# Altium schematic symbol library ICS_DIVERSOS.SchLib: 48 symbols (part 2 of 3)
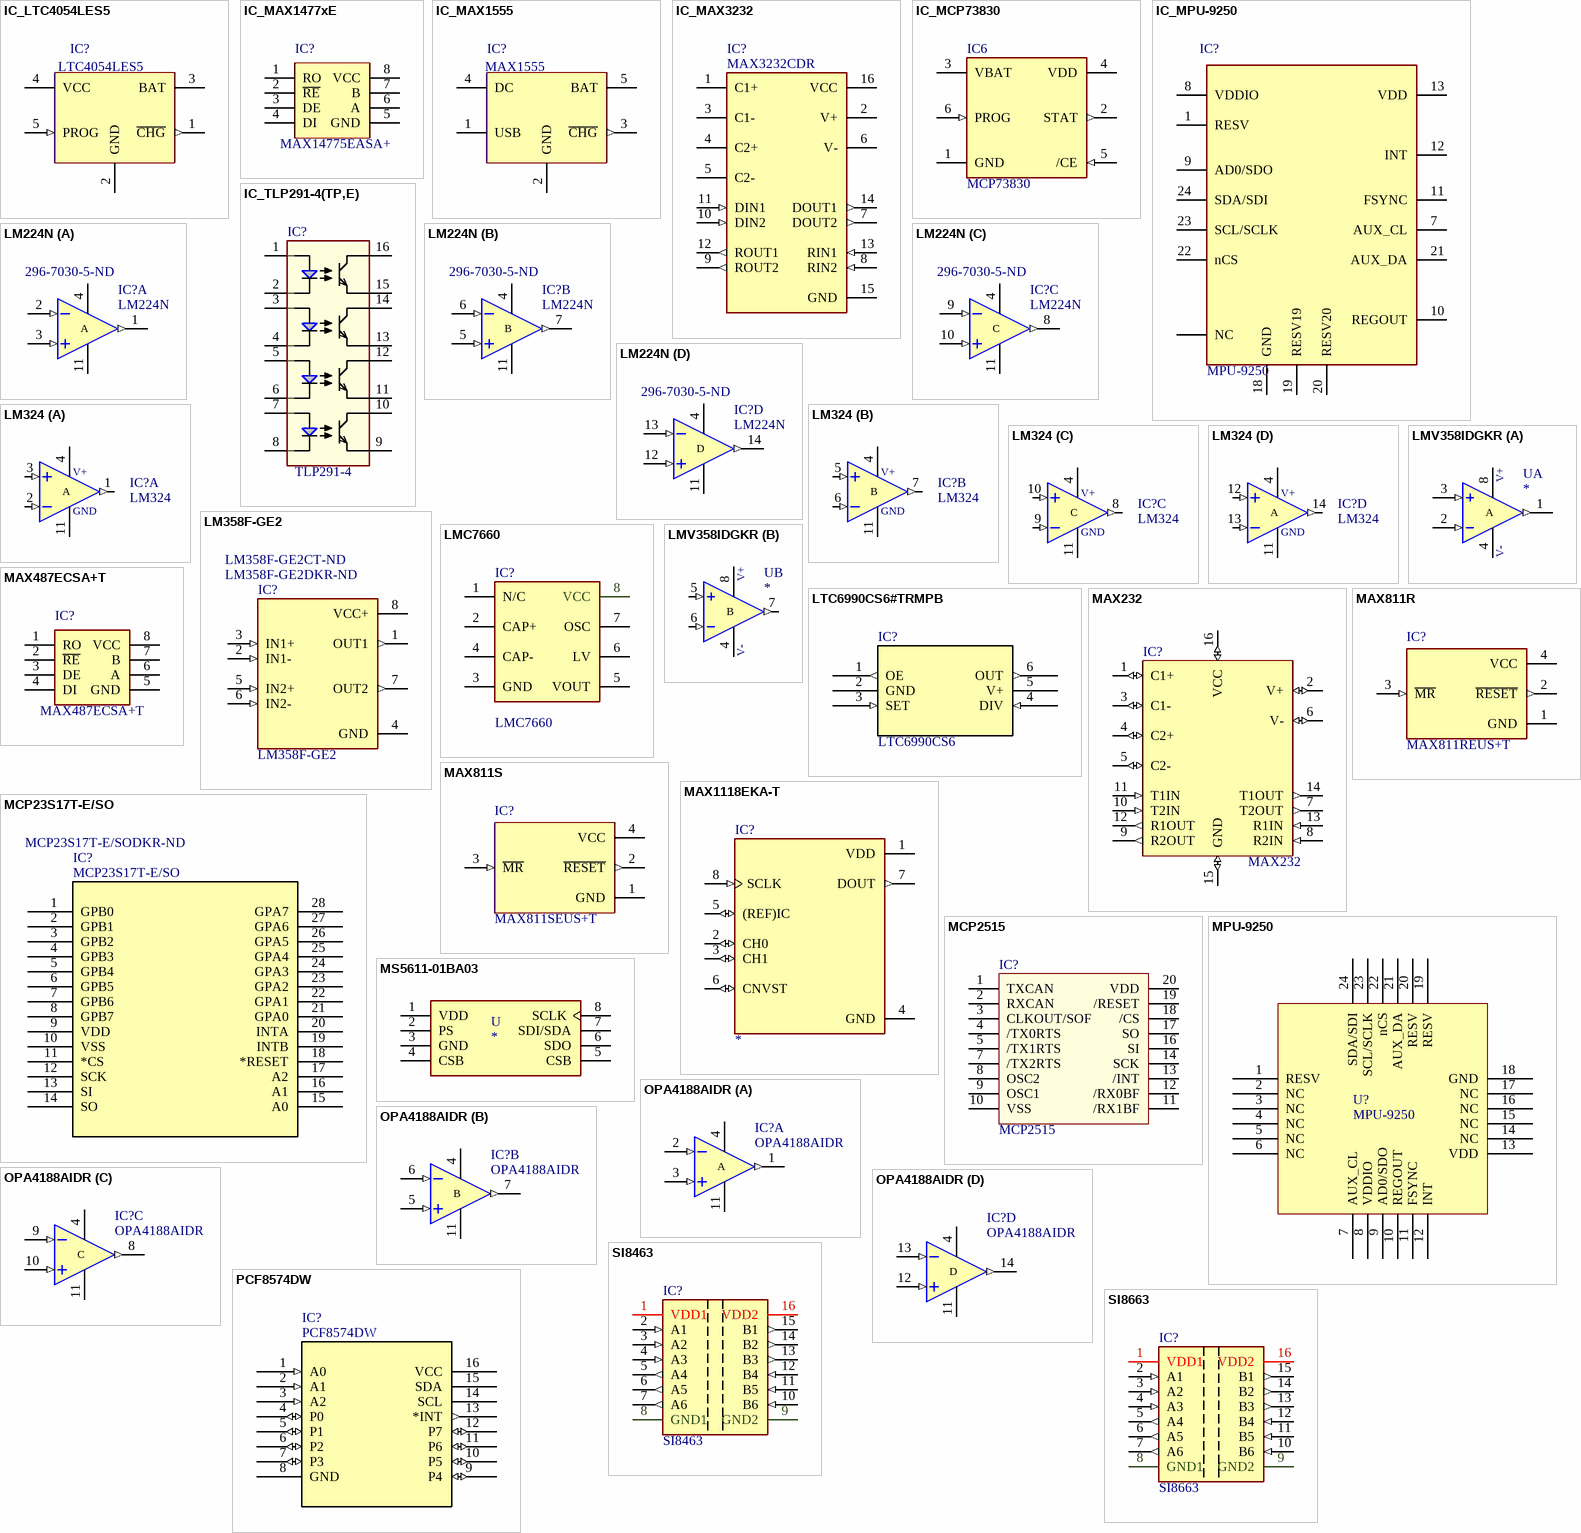
[diagram p3: symbols IC_LTC4054LES5 to SI8663]

## IC_MAX3232
designator IC?, comment MAX3232CDR
IC DRVR/RCVR MULTCH RS232 16SOIC; Manufacturer: Texas Instruments; FABRICANTE: TEXAS; Number of Receivers: 2; Data Rate: 250Kbps; Operating Supply Voltage: 5V; Max Supply Voltage: 5.5V; Min Supply Voltage: 3V; Nominal Supply Current: 1mA; Logic Function: Transceiver,Receiver; Number of Transceivers: 1; Simplex/Duplex: Full Duplex; ESD Protection: Yes; Output Voltage: 5.4V; ComponentLink1Description: LOJA; ComponentLink1URL: https://www.digikey.com/product-detail/en/texas-instruments/MAX3232CDR/296-13094-1-ND/484464; ComponentLink2Description: DATASHEET; ComponentLink2URL: http://www.ti.com/lit/ds/symlink/max3232.pdf; VALUE: MAX3232CDR; MPN: MAX3232CDR; FOOTPRINT: 16 SOIC; Supplier 1: Digi-Key; Supplier Part Number 1: 296-13094-1-ND; Manufacturer Part Number: MAX3232CDR; Stock 1: 14772; Pricing 1: 1=1,02000, 10=0,91500, 25=0,86800, 100=0,66650, 250=0,58900, 500=0,55800, 1000=0,43400 (USD); RoHS: Yes; Mount: Surface Mount; Case/Package: D; Number of Pins: 16; Weight: 0.004998oz; Contact Plating: Gold; Min Operating Temperature: -40°C; Max Operating Temperature: 85°C; Number of Transmitters: 2; Packaging: Tape and Reel; Package Quantity: 1; Number of Drivers: 2; Max Supply Current: 1mA; Operating Supply Current: 1mA; Length: 9.9mm; Height: 1.58mm; Width: 3.91mm; Radiation Hardening: No; Lead Free: Lead Free; REACH SVHC: No SVHC; ComponentLink3URL: https://datasheet.ciiva.com/41461/001186897-da-01-en-ic-drvr-rcvr-mult-max3232cdr-soic-16-tid-41461424.pdf?src-supplier=Conrad; ComponentLink3Description: https://datasheet.ciiva.com/41461/001186897-da-01-en-ic-drvr-rcvr-mult-max3232cdr-soic-16-tid-41461424.pdf?src-supplier=Conrad; ComponentLink4URL: https://datasheet.ciiva.com/1702/max3232-1702778.pdf?src-supplier=Digi-Key; ComponentLink4Description: https://datasheet.ciiva.com/1702/max3232-1702778.pdf?src-supplier=Digi-Key; ComponentLink5URL: https://datasheet.ciiva.com/1702/max3232-1702779.pdf?src-supplier=Digi-Key; ComponentLink5Description: https://datasheet.ciiva.com/1702/max3232-1702779.pdf?src-supplier=Digi-Key; ComponentLink6URL: https://datasheet.ciiva.com/1702/max3232-1702780.pdf?src-supplier=Digi-Key; ComponentLink6Description: https://datasheet.ciiva.com/1702/max3232-1702780.pdf?src-supplier=Digi-Key; ComponentLink7URL: https://datasheet.ciiva.com/46397/1882754-46397998.pdf?src-supplier=Element14; ComponentLink7Description: https://datasheet.ciiva.com/46397/1882754-46397998.pdf?src-supplier=Element14
footprint NB SOIC-16 (SOIC 16 PIN NARROW BODY)
pins: 1 C1+, 2 V+, 3 C1-, 4 C2+, 5 C2-, 6 V-, 7 DOUT2 (out), 8 RIN2 (in), 9 ROUT2 (out), 10 DIN2 (in), 11 DIN1 (in), 12 ROUT1 (out), 13 RIN1 (in), 14 DOUT1 (out), 15 GND (power), 16 VCC (power)

## IC_MCP73830
designator IC6, comment MCP73830
IC BATT MGMT LI-ION 1A 6TDFN; MPN: MCP73830T-2AAI/MYY; Manufacturer: Microchip; FABRICANTE: MICROCHIP TE; Min Supply Voltage: 3.75V; Max Supply Voltage: 6V; FOOTPRINT: 6-TDFN (2X2); VALUE: MCP73830; ComponentLink1Description: LOJA; ComponentLink1URL: https://www.digikey.com/product-detail/en/microchip-technology/MCP73830T-2AAI-MYY/MCP73830T-2AAI-MYYCT-ND/7916532; ComponentLink2Description: DATASHEET; ComponentLink2URL: http://ww1.microchip.com/downloads/en/DeviceDoc/MCP73830-L-Data-Sheet-DS20005049E.pdf; Supplier 1: Digi-Key; Supplier Part Number 1: MCP73830T-2AAI/MYYCT-ND; Manufacturer Part Number: MCP73830T-2AAI/MYY; Stock 1: 2884; Pricing 1: 1=0,89000, 25=0,74000, 100=0,67000 (USD); RoHS: Yes; Mount: Surface Mount; Number of Pins: 6; Min Operating Temperature: -40°C; Max Operating Temperature: 125°C; Packaging: Tape and Reel; Package Quantity: 3000; Radiation Hardening: No; Lead Free: Lead Free; ComponentLink3URL: https://datasheet.ciiva.com/17299/25049b-17299286.pdf?src-supplier=Avnet+Europe; ComponentLink3Description: https://datasheet.ciiva.com/17299/25049b-17299286.pdf?src-supplier=Avnet+Europe; ComponentLink4URL: https://datasheet.ciiva.com/3232/25049b-3232152.pdf?src-supplier=Avnet; ComponentLink4Description: https://datasheet.ciiva.com/3232/25049b-3232152.pdf?src-supplier=Avnet; ComponentLink5URL: https://datasheet.ciiva.com/1933/25049b-1933514.pdf?src-supplier=Digi-Key; ComponentLink5Description: https://datasheet.ciiva.com/1933/25049b-1933514.pdf?src-supplier=Digi-Key
footprint 6-TDFN (2X2) (6-TDFN, 6-Leads, Body 2,00x2,00mm, Pitch 0,50mm, Thermal Pad 1,60x0,60mm, IPC Medium Density)
pins: 1 GND (power), 2 STAT (out), 3 VBAT (power), 4 VDD (power), 5 /CE (in), 6 PROG (in)

## IC_MPU-9250
designator IC?, comment MPU-9250
IMU ACCEL/GYRO/MAG I2C/SPI 24QFN; Fabricante: TDK InvenSense; Interface: I2C,SPI; Sensor Type: Accelerometer,Gyroscope,Magnetometer; Max Supply Voltage: 3.6V; Min Supply Voltage: 2.4V; Output Type: SPI,I2C,Digital; Footprint: 24-QFN (3x3); MPN: MPU-9250; Value: MPU-9250; ComponentLink1Description: loja; ComponentLink1URL: https://www.digikey.com/product-detail/en/tdk-invensense/MPU-9250/1428-1019-1-ND/4626450; ComponentLink2Description: datasheet; ComponentLink2URL: https://media.digikey.com/pdf/Data%20Sheets/TDK%20PDFs/MPU-9250_Rev_1.1.pdf; Supplier 1: Digi-Key; Supplier Part Number 1: 1428-1019-2-ND; Manufacturer: TDK InvenSense; Manufacturer Part Number: MPU-9250; Stock 1: 0; RoHS: Yes; Mount: Surface Mount; Case/Package: QFN; Number of Pins: 24; Min Operating Temperature: -40°C; Max Operating Temperature: 85°C; Package Quantity: 1; Length: 3.1mm; Height: 1mm; Width: 3.1mm; ComponentLink3URL: https://datasheet.ciiva.com/29175/mpu-9250-29175105.pdf?src-supplier=Digi-Key; ComponentLink3Description: https://datasheet.ciiva.com/29175/mpu-9250-29175105.pdf?src-supplier=Digi-Key
footprint 24-QFN 3X3 (QFN, 24-Leads, Body 3,00x3,00mm, Pitch 0,40mm, Thermal Pad 1,54x1,70mm, IPC Medium Density)
pins: 1 RESV, 2 NC, 3 NC3, 4 NC4, 5 NC5, 6 NC6, 7 AUX_CL, 8 VDDIO (power), 9 AD0/SDO, 10 REGOUT, 11 FSYNC, 12 INT, 13 VDD (power), 14 NC14, 15 NC15, 16 NC16, 17 NC17, 18 GND, 19 RESV19, 20 RESV20, 21 AUX_DA, 22 nCS, 23 SCL/SCLK, 24 SDA/SDI

## IC_TLP291-4(TP,E)
designator IC?, comment TLP291-4
IC OPTOISOLTR 2.5KV 4CH TRANS 16-SO; MPN: TLP291-4(TP,E); Fabricante: TOSHIBA; Current Transfer Ratio: 400%; Collector Emitter Voltage (VCEO): 80V; Forward Current: 50mA; Number of Elements: 4; Power Dissipation: 170mW; Reverse Breakdown Voltage: 5V; Forward Voltage: 1.4V; Collector Emitter Saturation Voltage: 400mV; VALUE: TLP291-4; Footprint: SOIC 16 (179MILs); ComponentLink1Description: LOJA; ComponentLink1URL: https://www.digikey.com/products/en?keywords=tlp291-4(tpe)ct-nd; Supplier 1: Digi-Key; Supplier Part Number 1: TLP291-4(TPE)CT-ND; Manufacturer: Toshiba; Manufacturer Part Number: TLP291-4(TP,E); Stock 1: 25463; Pricing 1: 1=1,04000, 10=0,84500, 100=0,52000, 500=0,44200, 1000=0,36400 (USD); RoHS: Yes; Mount: Surface Mount; Case/Package: SO; Number of Pins: 16; Min Operating Temperature: -55°C; Max Operating Temperature: 110°C; Packaging: Tape and Reel; Package Quantity: 1; Number of Channels: 4; Max Power Dissipation: 170mW; Max Collector Current: 50mA; Max Output Voltage: 80V; Max Input Current: 50mA; Max Output Current: 50mA; Max Input Voltage: 1.4V; Output Voltage: 80V; Radiation Hardening: No; ComponentLink2URL: https://datasheet.ciiva.com/4701/tlp291-4-204553-4701782.pdf?src-supplier=Mouser; ComponentLink2Description: https://datasheet.ciiva.com/4701/tlp291-4-204553-4701782.pdf?src-supplier=Mouser; ComponentLink3URL: https://datasheet.ciiva.com/41859/half-pitch4-chtransphotocouplersref-41859910.pdf?src-supplier=Digi-Key; ComponentLink3Description: https://datasheet.ciiva.com/41859/half-pitch4-chtransphotocouplersref-41859910.pdf?src-supplier=Digi-Key
footprint SOIC-16 (179mils) (SOIC, 16-Leads, Body 10,30x4,50mm, Pitch 1,27mm, IPC Medium Density)
pins: 1 ANODE (oe), 2 CATHODE, 3 ANODE (oe), 4 CATHODE, 5 ANODE (oe), 6 CATHODE, 7 ANODE (oe), 8 CATHODE, 9 EMITTER, 10 COLLECTOR, 11 EMITTER, 12 COLLECTOR, 13 EMITTER, 14 COLLECTOR, 15 EMITTER, 16 COLLECTOR

## LM224N
designator IC?  Supplier Part Number 1: 296-7030-5-ND
Quadruple Operational Amplifiers.DIP 14; Manufacturer: Toshiba; Manufacturer Part Number: TLP291-4(TP,E); Current Transfer Ratio: 400%; Collector Emitter Voltage (VCEO): 80V; Forward Current: 50mA; Number of Elements: 4; Power Dissipation: 170mW; Reverse Breakdown Voltage: 5V; Forward Voltage: 1.4V; Collector Emitter Saturation Voltage: 400mV; MPN: LM224N; Fabricante: *; Footprint: DIP 14; value: *; RoHS: Yes; Mount: Surface Mount; Case/Package: SO; Number of Pins: 16; Min Operating Temperature: -55°C; Max Operating Temperature: 110°C; Packaging: Tape and Reel; Package Quantity: 1; Number of Channels: 4; Max Power Dissipation: 170mW; Max Collector Current: 50mA; Max Output Voltage: 80V; Max Input Current: 50mA; Max Output Current: 50mA; Max Input Voltage: 1.4V; Output Voltage: 80V; Radiation Hardening: No; Supplier 1: Digi-Key
footprint DIP14 (DIP; 14 Leads; Row Spacing 7.62 mm; Pitch 2.54 mm)
part A pins: 1 1OUT (out), 2 1IN- (in), 3 1IN+ (in), 4 VDD (power), 11 VSS (power)
part B pins: 4 VDD (power), 5 2IN+ (in), 6 2IN- (in), 7 2OUT (out), 11 VSS (power)
part C pins: 4 VDD (power), 8 3OUT (out), 9 3IN- (in), 10 3IN+ (in), 11 VSS (power)
part D pins: 4 VDD (power), 11 VSS (power), 12 4IN+ (in), 13 4IN- (in), 14 4OUT (out)
part A text: A
part B text: B
part C text: C
part D text: D

## LM324
designator IC?
these devices consist of four independent high-gain frequency-compensated operational amplifiers that are designed sp...; Manufacturer: STMicroelectronics; Manufacturer Part Number: LM324DT; MF: Texas Instruments; Slew Rate: 0.4V/µs; Common Mode Rejection Ratio: 70dB; Max Supply Voltage: 30V; Min Supply Voltage: 3V; Min Dual Supply Voltage: 1.5V; Max Dual Supply Voltage: 15V; Voltage Gain: 100dB; Number of Channels: 4; Output Current: 40mA; Input Offset Voltage (Vos): 7mV; Input Bias Current: 150nA; Gain Bandwidth Product: 1.3MHz; Nominal Supply Current: 1.2mA; Operating Supply Current: 1.5mA; Output Current per Channel: 70mA; Dual Supply Voltage: 9V; Package: SOIC-14 Texas Instruments; MP: LM324; SnapEDA_Link: https://www.snapeda.com/parts/LM324/Texas%20Instruments/view-part/?ref=snap; Price: None; Availability: Unavailable; Value: *; Supplier 1: Digi-Key; Supplier Part Number 1: 497-1580-1-ND; Stock 1: 26706; Pricing 1: 1=0,35000, 10=0,28400, 25=0,26000, 100=0,17550, 250=0,14520, 500=0,13310, 1000=0,09983 (USD); RoHS: Yes; Mount: Surface Mount; Case/Package: SOIC; Number of Pins: 14; Weight: 0.01lb; Contact Plating: Tin,Matte; Min Operating Temperature: 0°C; Max Operating Temperature: 70°C; Packaging: Tape and Reel; Operating Supply Voltage: 15V; Number of Elements: 4; Package Quantity: 2500; Number of Circuits: 4; Number of Amplifiers: 4; Bandwidth: 1.3MHz; Unity Gain Bandwidth Product: 1.3MHz; Length: 8.75mm; Height: 1.65mm; Width: 4mm; Radiation Hardening: No; Lead Free: Lead Free; REACH SVHC: No SVHC; ComponentLink1URL: https://datasheet.ciiva.com/4758/cd00000457-103203-4758032.pdf?src-supplier=Mouser; ComponentLink1Description: https://datasheet.ciiva.com/4758/cd00000457-103203-4758032.pdf?src-supplier=Mouser; ComponentLink2URL: https://datasheet.ciiva.com/1795/cd00000457-1795559.pdf?src-supplier=Digi-Key; ComponentLink2Description: https://datasheet.ciiva.com/1795/cd00000457-1795559.pdf?src-supplier=Digi-Key; ComponentLink3URL: https://datasheet.ciiva.com/1795/cd00000457-1795560.pdf?src-supplier=Digi-Key; ComponentLink3Description: https://datasheet.ciiva.com/1795/cd00000457-1795560.pdf?src-supplier=Digi-Key; ComponentLink4URL: https://datasheet.ciiva.com/16375/cd00000457-16375528.pdf?src-supplier=Future+Electronics; ComponentLink4Description: https://datasheet.ciiva.com/16375/cd00000457-16375528.pdf?src-supplier=Future+Electronics; ComponentLink5URL: https://datasheet.ciiva.com/1795/cd00000457-1795561.pdf?src-supplier=Digi-Key; ComponentLink5Description: https://datasheet.ciiva.com/1795/cd00000457-1795561.pdf?src-supplier=Digi-Key; ComponentLink6URL: https://datasheet.ciiva.com/8008/1834360-8008490.pdf?src-supplier=Element14; ComponentLink6Description: https://datasheet.ciiva.com/8008/1834360-8008490.pdf?src-supplier=Element14; ComponentLink7URL: https://datasheet.ciiva.com/28630/1834360-28630538.pdf?src-supplier=Element14; ComponentLink7Description: https://datasheet.ciiva.com/28630/1834360-28630538.pdf?src-supplier=Element14; ComponentLink8URL: https://datasheet.ciiva.com/8008/1834360-8008827.pdf?src-supplier=Element14; ComponentLink8Description: https://datasheet.ciiva.com/8008/1834360-8008827.pdf?src-supplier=Element14
footprint *SOIC127P600X175-14N
part A pins: 1 OUTPUT1 (out), 2 INVERTING_INPUT1 (in), 3 NON-INVERTING_INPUT1 (in), 4 +VCC (power), 11 GND (power)
part B pins: 4 +VCC (power), 5 NON-INVERTING_INPUT2 (in), 6 INVERTING_INPUT2 (in), 7 OUTPUT2 (out), 11 GND (power)
part C pins: 4 +VCC (power), 8 OUTPUT3 (out), 9 INVERTING_INPUT3 (in), 10 NON-INVERTING_INPUT3 (in), 11 GND (power)
part D pins: 4 +VCC (power), 11 GND (power), 12 NON-INVERTING_INPUT4 (in), 13 INVERTING_INPUT4 (in), 14 OUTPUT4 (out)
part A text: V+; A
part B text: V+; B
part C text: V+; C
part D text: V+; A

## LM358F-GE2
designator IC?  Supplier Part Number 1: LM358F-GE2DKR-ND  Supplier Part Number 2: LM358F-GE2CT-ND
LM358 Series 30 V 1.1 MHz Low Power Dual Operational Amplifier - SOIC-8; Fabricante: ROHM; Number of Circuits: 2; Slew Rate: 0.3V/µs; Gain Bandwidth Product: 800kHz; Input Bias Current: 20nA; Input Offset Voltage (Vos): 1mV; Operating Supply Current: 600uA; MPN: LM358F-GE2; Footprint: SOIC-8; Value: LM358F-GE2; ComponentLink1Description: DATASHEET; ComponentLink1URL: https://www.onsemi.com/pub/Collateral/LM358-D.PDF; ComponentLink2Description: DATASHEET - MOUSER; ComponentLink2URL: https://br.mouser.com/datasheet/2/348/lm358f-e-1138765.pdf; ComponentLink3Description: LOJA; ComponentLink3URL: https://br.mouser.com/ProductDetail/ROHM-Semiconductor/LM358F-GE2?qs=sGAEpiMZZMtCHixnSjNA6ExKYjlEqkVAUYCIQyowII8%3D; Manufacturer: Rohm; Manufacturer Part Number: LM358F-GE2; RoHS: No; Mount: Surface Mount; Case/Package: SOIC; Number of Pins: 8; Min Operating Temperature: -40°C; Max Operating Temperature: 85°C; Packaging: Tape and Reel; Supplier 1: Digi-Key; Supplier 2: Digi-Key
footprint SOIC-8 NB / CASE 751-07 (LM358 Series 30 V 1.1 MHz Low Power Dual Operational Amplifier - SOIC-8)
pins: 1 OUT1 (out), 2 IN1- (in), 3 IN1+ (in), 4 GND (power), 5 IN2+ (in), 6 IN2- (in), 7 OUT2 (out), 8 VCC+ (power)

## LMC7660
designator IC?
LMC7660 Switched Capacitor Voltage Converter; Manufacturer: TI National Semiconductor; Manufacturer Part Number: LMC7660IMX/NOPB; Fabricante: TEXAS; Output Voltage: -10V; Logic Function: Inverting; Max Input Voltage: 10V; Min Input Voltage: 1.5V; Number of Outputs: 1; Switching Frequency: 10kHz; Quiescent Current: 120uA; Output Type: Adjustable; Operating Supply Current: 200uA; Max Output Voltage: -1.5V; Output Power: 600mW; Output Current: 20uA; MPN: LMC7660; Footprint: SOIC; VALUE: LMC7660; ComponentLink1Description: DATASHEET; ComponentLink1URL: https://www.ti.com/lit/ds/symlink/lmc7660.pdf; ComponentLink2Description: LOJA; ComponentLink2URL: https://www.digikey.com/product-detail/en/texas-instruments/LMC7660IMX-NOPB/LMC7660IMX-NOPBTR-ND/367456; Supplier 1: Digi-Key; Supplier Part Number 1: LMC7660IMX/NOPBCT-ND; Stock 1: 16132; Pricing 1: 1=0,83000, 10=0,73800, 25=0,70000, 100=0,53750, 250=0,47500, 500=0,45000, 1000=0,35000 (USD); RoHS: Yes; Mount: Surface Mount; Case/Package: SOIC; Number of Pins: 8; Weight: 0.006596oz; Contact Plating: Tin; Min Operating Temperature: -40°C; Max Operating Temperature: 85°C; Packaging: Tape and Reel; Min Supply Voltage: 1.5V; Max Supply Voltage: 10V; Min Output Voltage: -10V; Radiation Hardening: No; Lead Free: Lead Free; REACH SVHC: No SVHC; ComponentLink3URL: https://datasheet.ciiva.com/6598/lmc7660-6598421.pdf?src-supplier=Digi-Key; ComponentLink3Description: https://datasheet.ciiva.com/6598/lmc7660-6598421.pdf?src-supplier=Digi-Key; ComponentLink4URL: https://datasheet.ciiva.com/6598/lmc7660-6598422.pdf?src-supplier=Digi-Key; ComponentLink4Description: https://datasheet.ciiva.com/6598/lmc7660-6598422.pdf?src-supplier=Digi-Key; ComponentLink5URL: https://datasheet.ciiva.com/6598/lmc7660-6598423.pdf?src-supplier=Digi-Key; ComponentLink5Description: https://datasheet.ciiva.com/6598/lmc7660-6598423.pdf?src-supplier=Digi-Key; ComponentLink6URL: https://datasheet.ciiva.com/46433/1841924-46433674.pdf?src-supplier=Element14; ComponentLink6Description: https://datasheet.ciiva.com/46433/1841924-46433674.pdf?src-supplier=Element14
footprint SOIC8_150MIL
pins: 1 N/C, 2 CAP+, 3 GND (power), 4 CAP-, 5 VOUT (power), 6 LV, 7 OSC, 8 VCC (power)

## LMV358IDGKR
designator U
General Purpose Amplifier 2 Circuit Rail-to-Rail 8-VSSOP; MF: Texas Instruments; MP: LMV358IDGKR; Gain Bandwidth Product: 1MHz; Voltage Gain: 100dB; Min Supply Voltage: 2.7V; Max Supply Voltage: 5.5V; Common Mode Rejection Ratio: 50dB; Number of Channels: 2; Output Current: 160mA; Slew Rate: 1V/µs; Nominal Supply Current: 440uA; Input Bias Current: 250nA; Input Offset Voltage (Vos): 7mV; Operating Supply Current: 210uA; Value: *; Footprint: MSOP-8 Texas Instruments; ComponentLink1Description: LOJA; ComponentLink1URL: https://www.digikey.com/product-detail/en/texas-instruments/LMV358IDGKR/296-13455-1-ND/486370?utm_source=snapeda&utm_medium=aggregator&utm_campaign=symbol; Supplier 1: Digi-Key; Supplier Part Number 1: 296-13455-1-ND; Manufacturer: Texas Instruments; Manufacturer Part Number: LMV358IDGKR; Stock 1: 13970; Pricing 1: 1=0,44000, 10=0,37500, 25=0,35000, 100=0,26000, 250=0,22000, 500=0,21000, 1000=0,15500 (USD); RoHS: Yes; Mount: Surface Mount; Case/Package: MSOP; Number of Pins: 8; Contact Plating: Gold; Min Operating Temperature: -40°C; Max Operating Temperature: 125°C; Packaging: Tape and Reel; Bandwidth: 1MHz; Number of Circuits: 2; Package Quantity: 1; Unity Gain Bandwidth Product: 1MHz; Output Current per Channel: 160mA; Number of Elements: 2; Power Supply Rejection Ratio (PSRR): 50dB; Number of Amplifiers: 2; Length: 3mm; Height: 0.97mm; Width: 3mm; Radiation Hardening: No; Lead Free: Lead Free; REACH SVHC: No SVHC; ComponentLink2URL: https://datasheet.ciiva.com/2975/lmv358-2975328.pdf?src-supplier=Avnet; ComponentLink2Description: https://datasheet.ciiva.com/2975/lmv358-2975328.pdf?src-supplier=Avnet; ComponentLink3URL: https://datasheet.ciiva.com/26847/lmv358idgkr-26847492.pdf?src-supplier=IIIC; ComponentLink3Description: https://datasheet.ciiva.com/26847/lmv358idgkr-26847492.pdf?src-supplier=IIIC; ComponentLink4URL: https://datasheet.ciiva.com/1796/lmv324-1796116.pdf?src-supplier=Digi-Key; ComponentLink4Description: https://datasheet.ciiva.com/1796/lmv324-1796116.pdf?src-supplier=Digi-Key; ComponentLink5URL: https://datasheet.ciiva.com/1796/lmv324-1796117.pdf?src-supplier=Digi-Key; ComponentLink5Description: https://datasheet.ciiva.com/1796/lmv324-1796117.pdf?src-supplier=Digi-Key; ComponentLink6URL: https://datasheet.ciiva.com/1796/lmv324-1796118.pdf?src-supplier=Digi-Key; ComponentLink6Description: https://datasheet.ciiva.com/1796/lmv324-1796118.pdf?src-supplier=Digi-Key; ComponentLink7URL: https://datasheet.ciiva.com/22657/1877073-22657499.pdf?src-supplier=Element14; ComponentLink7Description: https://datasheet.ciiva.com/22657/1877073-22657499.pdf?src-supplier=Element14; ComponentLink8URL: https://datasheet.ciiva.com/26266/lmv321-26266158.pdf?src-supplier=Avnet+Europe; ComponentLink8Description: https://datasheet.ciiva.com/26266/lmv321-26266158.pdf?src-supplier=Avnet+Europe
footprint SOP65P490X110-8N
part A pins: 1 1OUT (out), 2 1IN- (in), 3 1IN+ (in), 4 GND (power), 8 VCC+ (power)
part B pins: 4 GND (power), 5 2IN+ (in), 6 2IN- (in), 7 2OUT (out), 8 VCC+ (power)
part A text: V+; A; V-
part B text: V+; B; V-

## LTC6990CS6#TRMPB
designator IC?  value LTC6990CS6
IC OSC SILICON PROG TSOT23-6; MPN: LTC6990CS6#TRMPBF; Manufacturer: Analog Devices / Linear Technology; FABRICANTE: Linear Technology/Analog Devices; Operating Supply Current: 235uA; Max Supply Voltage: 5.5V; Min Supply Voltage: 2.25V; Frequency: 488Hz; Supplier 1: Digi-Key; Supplier Part Number 1: LTC6990CS6#TRMPBFCT-ND; Manufacturer Part Number: LTC6990CS6#TRMPBF; Stock 1: 6913; Pricing 1: 1=3,99000, 25=2,20400 (USD); RoHS: Yes; Mount: Surface Mount; Case/Package: TSOT; Number of Pins: 6; Min Operating Temperature: 0°C; Max Operating Temperature: 70°C; Packaging: Tape and Reel; Package Quantity: 500; Length: 2.9mm; Depth: 1.75mm; Radiation Hardening: No; REACH SVHC: No SVHC; ComponentLink1URL: https://datasheet.ciiva.com/15116/getdatasheetpartid-563181-15116209.pdf?src-supplier=Verical; ComponentLink1Description: https://datasheet.ciiva.com/15116/getdatasheetpartid-563181-15116209.pdf?src-supplier=Verical; ComponentLink2URL: https://datasheet.ciiva.com/22694/1796834-22694391.pdf?src-supplier=Element14; ComponentLink2Description: https://datasheet.ciiva.com/22694/1796834-22694391.pdf?src-supplier=Element14; ComponentLink3URL: https://datasheet.ciiva.com/1369/1441932-1369090.pdf?src-supplier=Farnell; ComponentLink3Description: https://datasheet.ciiva.com/1369/1441932-1369090.pdf?src-supplier=Farnell; ComponentLink4URL: https://datasheet.ciiva.com/1369/1441932-1369091.pdf?src-supplier=Farnell; ComponentLink4Description: https://datasheet.ciiva.com/1369/1441932-1369091.pdf?src-supplier=Farnell; ComponentLink5URL: https://datasheet.ciiva.com/1360/1796834-1360936.pdf?src-supplier=Element14; ComponentLink5Description: https://datasheet.ciiva.com/1360/1796834-1360936.pdf?src-supplier=Element14; ComponentLink6URL: https://datasheet.ciiva.com/1234/29338-1234589.pdf?src-supplier=Digi-Key; ComponentLink6Description: https://datasheet.ciiva.com/1234/29338-1234589.pdf?src-supplier=Digi-Key; ComponentLink7URL: https://datasheet.ciiva.com/1234/29338-1234590.pdf?src-supplier=Digi-Key; ComponentLink7Description: https://datasheet.ciiva.com/1234/29338-1234590.pdf?src-supplier=Digi-Key; ComponentLink8URL: https://datasheet.ciiva.com/1234/29338-1234591.pdf?src-supplier=Digi-Key; ComponentLink8Description: https://datasheet.ciiva.com/1234/29338-1234591.pdf?src-supplier=Digi-Key
footprint TSOT-23_S6
pins: 1 OE (out), 2 GND (power), 3 SET (in), 4 DIV (in), 5 V+ (power), 6 OUT (out)

## MAX232
designator IC?
IC DUAL EIA-232 DRVR/RCVR 16SOIC; MPN: MAX232DR; Fabricante: Texas Instruments; Data Rate: 120Kbps; Number of Receivers: 2; Operating Supply Voltage: 5V; Nominal Supply Current: 10mA; Min Supply Voltage: 4.5V; Max Supply Voltage: 5.5V; Logic Function: Transceiver,Receiver; Number of Transceivers: 1; Simplex/Duplex: Full Duplex; ESD Protection: Yes; Footprint: SOIC-16; ComponentLink1Description: Datasheet; ComponentLink1URL: http://www.ti.com/lit/ds/symlink/max232.pdf; Value: MAX232; Supplier 1: Digi-Key; Supplier Part Number 1: 296-14619-1-ND; Manufacturer: Texas Instruments; Manufacturer Part Number: MAX232DR; Stock 1: 14022; Pricing 1: 1=0,64000, 10=0,55200, 25=0,51480, 100=0,38250, 250=0,32364, 500=0,30892, 1000=0,22801 (USD); RoHS: Yes; Mount: Surface Mount; Case/Package: D; Number of Pins: 16; Weight: 0.004998oz; Contact Plating: Gold; Min Operating Temperature: -40°C; Max Operating Temperature: 85°C; Packaging: Tape and Reel; Number of Transmitters: 2; Number of Drivers: 2; Package Quantity: 2500; Max Supply Current: 10mA; Operating Supply Current: 10mA; Length: 9.9mm; Height: 1.58mm; Width: 3.91mm; Radiation Hardening: No; REACH SVHC: No SVHC; Lead Free: Lead Free; ComponentLink2URL: https://datasheet.ciiva.com/15151/getdatasheetpartid-249515-15151893.pdf?src-supplier=Verical; ComponentLink2Description: https://datasheet.ciiva.com/15151/getdatasheetpartid-249515-15151893.pdf?src-supplier=Verical; ComponentLink3URL: https://datasheet.ciiva.com/1700/max232-1700787.pdf?src-supplier=Digi-Key; ComponentLink3Description: https://datasheet.ciiva.com/1700/max232-1700787.pdf?src-supplier=Digi-Key; ComponentLink4URL: https://datasheet.ciiva.com/1700/max232-1700788.pdf?src-supplier=Digi-Key; ComponentLink4Description: https://datasheet.ciiva.com/1700/max232-1700788.pdf?src-supplier=Digi-Key; ComponentLink5URL: https://datasheet.ciiva.com/1700/max232-1700789.pdf?src-supplier=Digi-Key; ComponentLink5Description: https://datasheet.ciiva.com/1700/max232-1700789.pdf?src-supplier=Digi-Key; ComponentLink6URL: https://datasheet.ciiva.com/1503/1837628-1503286.pdf?src-supplier=Element14; ComponentLink6Description: https://datasheet.ciiva.com/1503/1837628-1503286.pdf?src-supplier=Element14
footprint NB SOIC-16 (SOIC 16 PIN NARROW BODY)
pins: 1 C1+ (io), 2 V+ (io), 3 C1- (io), 4 C2+ (io), 5 C2- (io), 6 V- (io), 7 T2OUT (out), 8 R2IN (in), 9 R2OUT (out), 10 T2IN (in), 11 T1IN (in), 12 R1OUT (out), 13 R1IN (in), 14 T1OUT (out), 15 GND (io), 16 VCC (io)

## MAX487ECSA+T
designator IC?
1/1 Transceiver Half RS422, RS485 8-SOIC; Manufacturer: Maxim; Fabricante: Maxim Integrated; Number of Transmitters: 1; Operating Supply Voltage: 5V; Max Power Dissipation: 471mW; Output Voltage: 3V; Propagation Delay: 250ns; Data Rate: 256Kbps; Nominal Supply Current: 300uA; Max Supply Voltage: 5.25V; Min Supply Voltage: 4.75V; Interface: RS-422,RS-485; ESD Protection: Yes; Max Output Current: 250mA; Operating Supply Current: 250uA; Simplex/Duplex: Half Duplex; MP: MAX487ECSA+T; Value: MAX487ECSA+T; Footprint: Soic; ComponentLink1Description: DATASHEET; ComponentLink1URL: https://datasheets.maximintegrated.com/en/ds/MAX1487E-MAX491E.pdf; ComponentLink2Description: LOJA; ComponentLink2URL: https://www.digikey.com/product-detail/en/maxim-integrated/MAX487ECSA-T/MAX487ECSA-TTR-ND/1498952; Supplier 1: Digi-Key; Supplier Part Number 1: MAX487ECSA+-ND; Manufacturer Part Number: MAX487ECSA+; Stock 1: 3244; Pricing 1: 1=2,99000, 10=2,68500, 25=2,53800, 100=2,13470 (USD); RoHS: Yes; Mount: Surface Mount; Case/Package: SOIC; Number of Pins: 8; Weight: 0.019048oz; Contact Plating: Tin,Matte; Min Operating Temperature: 0°C; Max Operating Temperature: 70°C; Logic Function: Transceiver; Packaging: Rail/Tube; Package Quantity: 100; Number of Receivers: 1; Number of Drivers: 1; Number of Transceivers: 1; Length: 5mm; Height: 1.5mm; Width: 4mm; Radiation Hardening: No; REACH SVHC: No SVHC; Lead Free: Lead Free; ComponentLink3URL: https://datasheet.ciiva.com/14152/max481e-83e-1487e-eng-tds-14152663.pdf?src-supplier=Distrelec; ComponentLink3Description: https://datasheet.ciiva.com/14152/max481e-83e-1487e-eng-tds-14152663.pdf?src-supplier=Distrelec; ComponentLink4URL: https://datasheet.ciiva.com/26835/max487ecsa-26835692.pdf?src-supplier=IIIC; ComponentLink4Description: https://datasheet.ciiva.com/26835/max487ecsa-26835692.pdf?src-supplier=IIIC; ComponentLink5URL: https://datasheet.ciiva.com/16640/max1487e-max491e-16640615.pdf?src-supplier=Avnet+Europe; ComponentLink5Description: https://datasheet.ciiva.com/16640/max1487e-max491e-16640615.pdf?src-supplier=Avnet+Europe; ComponentLink6URL: https://datasheet.ciiva.com/8075/3976-8075384.pdf?src-supplier=Element14; ComponentLink6Description: https://datasheet.ciiva.com/8075/3976-8075384.pdf?src-supplier=Element14; ComponentLink7URL: https://datasheet.ciiva.com/1713/max1487e-max491e-1713147.pdf?src-supplier=Digi-Key; ComponentLink7Description: https://datasheet.ciiva.com/1713/max1487e-max491e-1713147.pdf?src-supplier=Digi-Key; ComponentLink8URL: https://datasheet.ciiva.com/3028/max1487e-max491e-3028655.pdf?src-supplier=Avnet; ComponentLink8Description: https://datasheet.ciiva.com/3028/max1487e-max491e-3028655.pdf?src-supplier=Avnet
footprint 8-SOIC_W,0.209" (SOIC, 8-Leads, Body 5,24x5,29mm, Pitch 1,27mm, IPC Medium Density)
pins: 1 RO, 2 ~{RE}, 3 DE, 4 DI, 5 GND (power), 6 A, 7 B, 8 VCC (power)

## MAX811R
designator IC?, comment MAX811REUS+T
IC MPU V-MONITOR 2.63V SOT143-4; MPN: MAX811MEUS+T; Manufacturer: Maxim; Fabricante: Maxim Integrated; Value: MAX811; Min Supply Voltage: 1.2V; Max Power Dissipation: 320mW; Watchdog Timer: No; Min Reset Threshold Voltage: 4.3V; Max Reset Threshold Voltage: 4.46V; Threshold Voltage: 4.38V; Nominal Supply Current: 6uA; Max Supply Voltage: 5.5V; Number of Voltages Monitored: 1; Reset: Active Low; Reset Timeout: 140ms; Max Output Current: 20mA; Footprint: SOT-143; Supplier 1: Digi-Key; Supplier Part Number 1: MAX811MEUS+TCT-ND; Manufacturer Part Number: MAX811MEUS+T; Stock 1: 861; Pricing 1: 1=2,86000, 10=2,26900, 25=2,07080, 100=1,79800, 250=1,64920, 500=1,61200 (USD); RoHS: Yes; Mount: Surface Mount; Case/Package: SOT-143; Number of Pins: 4; Min Operating Temperature: -40°C; Max Operating Temperature: 85°C; Packaging: Tape and Reel; Power Dissipation: 320mW; Type: Simple Reset/Power-On Reset; Overvoltage Threshold: 4.46V; Undervoltage Threshold: 4.3V; Operating Supply Current: 6uA; Package Quantity: 2500; Termination: SMD/SMT; Length: 3.04mm; Height: 1.07mm; Width: 1.4mm; Radiation Hardening: No; Lead Free: Lead Free; REACH SVHC: Unknown; ComponentLink1URL: https://datasheet.ciiva.com/1173/46713-1173744.pdf?src-supplier=Farnell; ComponentLink1Description: https://datasheet.ciiva.com/1173/46713-1173744.pdf?src-supplier=Farnell; ComponentLink2URL: https://datasheet.ciiva.com/20167/170156-da-en-01-20167337.pdf?src-supplier=Rapid+Electronics; ComponentLink2Description: https://datasheet.ciiva.com/20167/170156-da-en-01-20167337.pdf?src-supplier=Rapid+Electronics; ComponentLink3URL: https://datasheet.ciiva.com/26884/max811meus-t-26884561.pdf?src-supplier=IIIC; ComponentLink3Description: https://datasheet.ciiva.com/26884/max811meus-t-26884561.pdf?src-supplier=IIIC; ComponentLink4URL: https://datasheet.ciiva.com/1972/max811-max812t-1972586.pdf?src-supplier=Digi-Key; ComponentLink4Description: https://datasheet.ciiva.com/1972/max811-max812t-1972586.pdf?src-supplier=Digi-Key; ComponentLink5URL: https://datasheet.ciiva.com/1169/46713-1169885.pdf?src-supplier=Element14; ComponentLink5Description: https://datasheet.ciiva.com/1169/46713-1169885.pdf?src-supplier=Element14; ComponentLink6URL: https://datasheet.ciiva.com/1972/max811-max812t-1972587.pdf?src-supplier=Digi-Key; ComponentLink6Description: https://datasheet.ciiva.com/1972/max811-max812t-1972587.pdf?src-supplier=Digi-Key; ComponentLink7URL: https://datasheet.ciiva.com/1972/max811-max812t-1972588.pdf?src-supplier=Digi-Key; ComponentLink7Description: https://datasheet.ciiva.com/1972/max811-max812t-1972588.pdf?src-supplier=Digi-Key; ComponentLink8URL: https://datasheet.ciiva.com/43495/170156-da-01-en-ic-max811meus-t-sot143-43495558.pdf?src-supplier=Conrad; ComponentLink8Description: https://datasheet.ciiva.com/43495/170156-da-01-en-ic-max811meus-t-sot143-43495558.pdf?src-supplier=Conrad
footprint SOT143-4P
pins: 1 GND (power), 2 ~{RESET} (out), 3 ~{MR} (in), 4 VCC (power)

## MAX811S
designator IC?, comment MAX811SEUS+T
IC MPU V-MONITOR 2.93V SOT143-4; Manufacturer: Maxim; Fabricante: Maxim Integrated; Value: MAX811; Min Supply Voltage: 1.2V; Watchdog Timer: No; Min Reset Threshold Voltage: 2.88V; Max Reset Threshold Voltage: 2.98V; Max Power Dissipation: 320mW; Max Supply Voltage: 5.5V; Number of Voltages Monitored: 1; Reset: Active Low; Reset Timeout: 140ms; Operating Supply Current: 2.7uA; Voltage: 3V; MPN: MAX811SEUS+T; Footprint: SOT-143; ComponentLink1Description: LOJA; ComponentLink1URL: https://www.digikey.com/product-detail/en/maxim-integrated/MAX811SEUS-T/MAX811SEUS-TTR-ND/948211; ComponentLink2Description: DATASHEET; ComponentLink2URL: https://datasheets.maximintegrated.com/en/ds/MAX811-MAX812T.pdf; Supplier 1: Digi-Key; Supplier Part Number 1: MAX811SEUS+TCT-ND; Manufacturer Part Number: MAX811SEUS+T; Stock 1: 12229; Pricing 1: 1=3,16000, 10=2,50700, 25=2,28800, 100=1,98650, 250=1,82212, 500=1,78100 (USD); RoHS: Yes; Mount: Surface Mount; Case/Package: SOT-143; Number of Pins: 4; Min Operating Temperature: -40°C; Max Operating Temperature: 85°C; Threshold Voltage: 2.93V; Packaging: Cut Tape; Power Dissipation: 320mW; Package Quantity: 2500; Type: Simple Reset/Power-On Reset; Overvoltage Threshold: 2.98V; Undervoltage Threshold: 2.88V; Radiation Hardening: No; Lead Free: Lead Free; REACH SVHC: No SVHC; ComponentLink3URL: https://datasheet.ciiva.com/1972/max811-max812t-1972560.pdf?src-supplier=Digi-Key; ComponentLink3Description: https://datasheet.ciiva.com/1972/max811-max812t-1972560.pdf?src-supplier=Digi-Key; ComponentLink4URL: https://datasheet.ciiva.com/20167/170161-da-en-01-20167338.pdf?src-supplier=Rapid+Electronics; ComponentLink4Description: https://datasheet.ciiva.com/20167/170161-da-en-01-20167338.pdf?src-supplier=Rapid+Electronics; ComponentLink5URL: https://datasheet.ciiva.com/26885/max811seus-t-26885459.pdf?src-supplier=IIIC; ComponentLink5Description: https://datasheet.ciiva.com/26885/max811seus-t-26885459.pdf?src-supplier=IIIC; ComponentLink6URL: https://datasheet.ciiva.com/1972/max811-max812t-1972561.pdf?src-supplier=Digi-Key; ComponentLink6Description: https://datasheet.ciiva.com/1972/max811-max812t-1972561.pdf?src-supplier=Digi-Key; ComponentLink7URL: https://datasheet.ciiva.com/14206/max811-max812-14206949.pdf?src-supplier=Avnet; ComponentLink7Description: https://datasheet.ciiva.com/14206/max811-max812-14206949.pdf?src-supplier=Avnet; ComponentLink8URL: https://datasheet.ciiva.com/22713/46713-22713738.pdf?src-supplier=Element14; ComponentLink8Description: https://datasheet.ciiva.com/22713/46713-22713738.pdf?src-supplier=Element14; ComponentLink9URL: https://datasheet.ciiva.com/1169/46713-1169887.pdf?src-supplier=Element14; ComponentLink9Description: https://datasheet.ciiva.com/1169/46713-1169887.pdf?src-supplier=Element14; ComponentLink10URL: https://datasheet.ciiva.com/1972/max811-max812t-1972559.pdf?src-supplier=Digi-Key; ComponentLink10Description: https://datasheet.ciiva.com/1972/max811-max812t-1972559.pdf?src-supplier=Digi-Key
footprint SOT143-4P
pins: 1 GND (power), 2 ~{RESET} (out), 3 ~{MR} (in), 4 VCC (power)

## MAX1118EKA-T
designator IC?
8 Bit Analog to Digital Converter 2 Input 1 SAR SOT-23-8; Manufacturer: Maxim; MP: MAX1118EKA+T; MF: Maxim Integrated; Sampling Rate: 100KS/s; Resolution: 8b; Number of A/D Converters: 1; Number of Analog Inputs: 2; Polarity: Unipolar; Number of Bits: 8; Min Supply Voltage: 2.7V; Max Supply Voltage: 5.5V; Interface: SPI,Serial; Max Power Dissipation: 714mW; Full Scale Error: 1LSB; Power Dissipation: 675uW; Supply Type: Single; Price: None; SnapEDA_Link: https://www.snapeda.com/parts/MAX1118EKA%2BT/Maxim%20Integrated/view-part/595142/?ref=snap; Package: SOT-8 Maxim; Value: *; Availability: Unavailable; Supplier 1: Digi-Key; Supplier Part Number 1: MAX1118EKA+TCT-ND; Manufacturer Part Number: MAX1118EKA+T; Stock 1: 1593; Pricing 1: 1=2,18000, 10=1,96100, 25=1,85000, 100=1,48000, 250=1,29500, 500=1,25800, 1000=0,99900 (USD); RoHS: Yes; Mount: Surface Mount; Case/Package: SOT-23-8; Number of Pins: 8; Contact Plating: Gold; Min Operating Temperature: -40°C; Max Operating Temperature: 85°C; Number of Converters: 1; Package Quantity: 2500; Packaging: Tape and Reel; Number of Channels: 2; Integral Nonlinearity (INL): 1LSB; Differential Nonlinearity: 1LSB; Conversion Rate: 100KS/s; Radiation Hardening: No; Lead Free: Lead Free; REACH SVHC: Unknown; ComponentLink1URL: https://datasheet.ciiva.com/1269/max1117-max1119-1269634.pdf?src-supplier=Digi-Key; ComponentLink1Description: https://datasheet.ciiva.com/1269/max1117-max1119-1269634.pdf?src-supplier=Digi-Key; ComponentLink2URL: https://datasheet.ciiva.com/1269/max1117-max1119-1269635.pdf?src-supplier=Digi-Key; ComponentLink2Description: https://datasheet.ciiva.com/1269/max1117-max1119-1269635.pdf?src-supplier=Digi-Key; ComponentLink3URL: https://datasheet.ciiva.com/1269/max1117-max1119-1269636.pdf?src-supplier=Digi-Key; ComponentLink3Description: https://datasheet.ciiva.com/1269/max1117-max1119-1269636.pdf?src-supplier=Digi-Key; ComponentLink4URL: https://datasheet.ciiva.com/14264/max1117-max1119-14264134.pdf?src-supplier=Avnet; ComponentLink4Description: https://datasheet.ciiva.com/14264/max1117-max1119-14264134.pdf?src-supplier=Avnet; ComponentLink5URL: https://datasheet.ciiva.com/16611/max1117-max1119-16611433.pdf?src-supplier=Avnet+Europe; ComponentLink5Description: https://datasheet.ciiva.com/16611/max1117-max1119-16611433.pdf?src-supplier=Avnet+Europe; ComponentLink6URL: https://datasheet.ciiva.com/3039/max1117-max1119-3039004.pdf?src-supplier=Avnet; ComponentLink6Description: https://datasheet.ciiva.com/3039/max1117-max1119-3039004.pdf?src-supplier=Avnet
footprint SOT65P280X145-8N
pins: 1 VDD (power), 2 CH0 (io), 3 CH1 (io), 4 GND (power), 5 (REF)IC (io), 6 CNVST (io), 7 DOUT (out), 8 SCLK (in)

## MCP23S17T-E/SO
designator IC?  Supplier Part Number 1: MCP23S17T-E/SODKR-ND
IC I/O EXPANDER SPI 16B 28SOIC; Manufacturer: Microchip; FABRICANTE: Microchip Technology; Interface: SPI,Serial; Min Supply Voltage: 4.5V; Max Supply Voltage: 5.5V; Number of Channels: 1; Nominal Supply Current: 1mA; Number of I/Os: 16; Power Dissipation: 700mW; Frequency: 10MHz; MPN: MCP23S17T-E/SO; VALOR: MCP23S17T-E/SO; Manufacturer Part Number: MCP23S17T-E/SO; RoHS: Yes; Mount: Surface Mount; Case/Package: SOIC; Number of Pins: 28; Min Operating Temperature: -40°C; Max Operating Temperature: 125°C; Packaging: Tape and Reel; Package Quantity: 1600; Max Frequency: 10MHz; Number of Bits: 16; REACH SVHC: No SVHC; Lead Free: Lead Free; Supplier 1: Digi-Key
footprint SOIC28-W_MC
pins: 1 GPB0, 2 GPB1, 3 GPB2, 4 GPB3, 5 GPB4, 6 GPB5, 7 GPB6, 8 GPB7, 9 VDD, 10 VSS, 11 *CS, 12 SCK, 13 SI, 14 SO, 15 A0, 16 A1, 17 A2, 18 *RESET, 19 INTB, 20 INTA, 21 GPA0, 22 GPA1, 23 GPA2, 24 GPA3, 25 GPA4, 26 GPA5, 27 GPA6, 28 GPA7

## MCP2515
designator IC?
CANbus Controller CAN 2.0 SPI Interface 18-SOIC; Manufacturer Part Number: MCP2515-I/ST; Fabricante: Microchip; Interface: SPI,CAN; Min Supply Voltage: 2.7V; Max Supply Voltage: 5.5V; Number of Transceivers: 1; Data Rate: 1Mbps; Max Supply Current: 10mA; Operating Supply Voltage: 5V; Number of Transmit Buffers: 3; Number of Receive Buffers: 2; Footprint: SOIC-20 Microchip; Value: MCP2515; MPN: MCP2515; ComponentLink1Description: Loja; ComponentLink1URL: https://www.digikey.com/product-detail/en/microchip-technology/MCP2515T-I-SO/MCP2515T-I-SOCT-ND/4307902; ComponentLink2Description: Datasheet; ComponentLink2URL: http://www.microchip.com/mymicrochip/filehandler.aspx?ddocname=en011733; Supplier 1: Digi-Key; Supplier Part Number 1: MCP2515-I/ST-ND; Manufacturer: Microchip; Stock 1: 4229; Pricing 1: 1=1,99000, 25=1,66000, 100=1,51000 (USD); RoHS: Yes; Mount: Surface Mount; Case/Package: TSSOP; Number of Pins: 20; Contact Plating: Tin,Matte; Min Operating Temperature: -40°C; Max Operating Temperature: 85°C; Packaging: Rail/Tube; Package Quantity: 74; Nominal Supply Current: 10mA; Number of Drivers: 1; Number of Receivers: 1; Length: 6.5mm; Height: 0.9mm; Width: 4.4mm; Radiation Hardening: No; Lead Free: Lead Free; REACH SVHC: No SVHC; ComponentLink3URL: https://datasheet.ciiva.com/26828/mcp2515-i-st-26828058.pdf?src-supplier=IIIC; ComponentLink3Description: https://datasheet.ciiva.com/26828/mcp2515-i-st-26828058.pdf?src-supplier=IIIC; ComponentLink4URL: https://datasheet.ciiva.com/14152/mcp2515-eng-tds-14152535.pdf?src-supplier=Distrelec; ComponentLink4Description: https://datasheet.ciiva.com/14152/mcp2515-eng-tds-14152535.pdf?src-supplier=Distrelec; ComponentLink5URL: https://datasheet.ciiva.com/1500/1669372-1500968.pdf?src-supplier=Element14; ComponentLink5Description: https://datasheet.ciiva.com/1500/1669372-1500968.pdf?src-supplier=Element14; ComponentLink6URL: https://datasheet.ciiva.com/1495/1669372-1495084.pdf?src-supplier=Element14; ComponentLink6Description: https://datasheet.ciiva.com/1495/1669372-1495084.pdf?src-supplier=Element14; ComponentLink7URL: https://datasheet.ciiva.com/8084/21801e-8084589.pdf?src-supplier=Avnet; ComponentLink7Description: https://datasheet.ciiva.com/8084/21801e-8084589.pdf?src-supplier=Avnet; ComponentLink8URL: https://datasheet.ciiva.com/1695/21801g-1695406.pdf?src-supplier=Digi-Key; ComponentLink8Description: https://datasheet.ciiva.com/1695/21801g-1695406.pdf?src-supplier=Digi-Key; ComponentLink9URL: https://datasheet.ciiva.com/16639/21801e-16639483.pdf?src-supplier=Avnet+Europe; ComponentLink9Description: https://datasheet.ciiva.com/16639/21801e-16639483.pdf?src-supplier=Avnet+Europe; ComponentLink10URL: https://datasheet.ciiva.com/14621/70045399-14621756.pdf?src-supplier=Allied+Electronics; ComponentLink10Description: https://datasheet.ciiva.com/14621/70045399-14621756.pdf?src-supplier=Allied+Electronics; ComponentLink11URL: https://datasheet.ciiva.com/15150/getdatasheetpartid-422441-15150044.pdf?src-supplier=Verical; ComponentLink11Description: https://datasheet.ciiva.com/15150/getdatasheetpartid-422441-15150044.pdf?src-supplier=Verical
footprint TSSOP 20
pins: 1 TXCAN, 2 RXCAN, 3 CLKOUT/SOF, 4 /TX0RTS, 5 /TX1RTS, 7 /TX2RTS, 8 OSC2, 9 OSC1, 10 VSS, 11 /RX1BF, 12 /RX0BF, 13 /INT, 14 SCK, 16 SI, 17 SO, 18 /CS, 19 /RESET, 20 VDD

## MPU-9250
designator U?
Accelerometer, Gyroscope, Magnetometer, 9 Axis Sensor IÂ²C, SPI Output; MF: TDK InvenSense; Interface: I2C,SPI; Max Supply Voltage: 3.6V; Min Supply Voltage: 2.4V; Output Type: SPI,I2C,Digital; Value: *; MP: MPU-9250; Package: TFQFN-24 TDK InvenSense; Supplier 1: Digi-Key; Supplier Part Number 1: 1428-1019-2-ND; Manufacturer: TDK InvenSense; Manufacturer Part Number: MPU-9250; Stock 1: 0; RoHS: Yes; Mount: Surface Mount; Case/Package: QFN; Number of Pins: 24; Min Operating Temperature: -40°C; Max Operating Temperature: 85°C; Sensor Type: Accelerometer,Gyroscope,Magnetometer; Package Quantity: 1; Length: 3.1mm; Height: 1mm; Width: 3.1mm; ComponentLink1URL: https://datasheet.ciiva.com/29175/mpu-9250-29175105.pdf?src-supplier=Digi-Key; ComponentLink1Description: https://datasheet.ciiva.com/29175/mpu-9250-29175105.pdf?src-supplier=Digi-Key
footprint 24-QFN 3X3 (QFN, 24-Leads, Body 3,00x3,00mm, Pitch 0,40mm, Thermal Pad 1,54x1,70mm, IPC Medium Density)
pins: 1 RESV, 2 NC, 3 NC, 4 NC, 5 NC, 6 NC, 7 AUX_CL, 8 VDDIO, 9 AD0/SDO, 10 REGOUT, 11 FSYNC, 12 INT, 13 VDD, 14 NC, 15 NC, 16 NC, 17 NC, 18 GND, 19 RESV, 20 RESV, 21 AUX_DA, 22 nCS, 23 SCL/SCLK, 24 SDA/SDI

## MS5611-01BA03
designator U
Pressure Sensor 0.15PSI ~ 17.4PSI _1kPa ~ 120kPa_ Absolute 24 b 8-SMD; Manufacturer Part Number: MS561101BA03-50; MP: MS5611-01BA03; MF: TE Connectivity; Operating Supply Voltage: 3.6V; Output Type: SPI,I2C; Port Style: No Port; Max Pressure: 87.02PSI; Value: *; Footprint: SMD-8 TE Connectivity; ComponentLink1Description: LOJA; ComponentLink1URL: https://www.te.com/usa-en/product-MS5611-01BA03.html?te_bu=Cor&te_type=disp&te_campaign=seda_glo_cor-seda-global-disp-prtnr-fy19-seda-model-bom-cta_sma-317_1&elqCampaignId=32493; Supplier 1: Digi-Key; Supplier Part Number 1: 223-1622-1-ND; Manufacturer: TE Connectivity; Stock 1: 755; Pricing 1: 1=12,48000, 5=12,22400, 10=10,18600, 25=9,42200, 50=9,16740, 100=7,89420, 500=7,38486, 1000=7,00288 (USD); RoHS: No; Case/Package: SMD/SMT; Number of Pins: 8; Min Operating Temperature: -40°C; Max Operating Temperature: 85°C; Pressure Type: Absolute; Operating Pressure: 17.4PSI; Termination: SMD/SMT; Lead Free: Lead Free; ComponentLink2URL: http://www.farnell.com/datasheets/1756128.pdf?src-supplier=Farnell; ComponentLink2Description: http://www.farnell.com/datasheets/1756128.pdf?src-supplier=Farnell; ComponentLink3URL: https://www.te.com/commerce/DocumentDelivery/DDEController?Action=srchrtrv&DocNm=MS5611-01BA03&DocType=Data+Sheet&DocLang=English&src-supplier=Digi-Key; ComponentLink3Description: https://www.te.com/commerce/DocumentDelivery/DDEController?Action=srchrtrv&DocNm=MS5611-01BA03&DocType=Data+Sheet&DocLang=English&src-supplier=Digi-Key; ComponentLink4URL: http://www.farnell.com/datasheets/1756128.pdf?src-supplier=Newark; ComponentLink4Description: http://www.farnell.com/datasheets/1756128.pdf?src-supplier=Newark
footprint SON125P500X300X100-8N
pins: 1 VDD (power), 2 PS, 3 GND (power), 4 CSB, 5 CSB, 6 SDO, 7 SDI/SDA, 8 SCLK

## OPA4188AIDR
designator IC?
IC OPAMP GP 4 CIRCUIT 14SOIC; Manufacturer: Texas Instruments; Fabricante: TEXAS INST; Min Dual Supply Voltage: 2V; Max Supply Voltage: 36V; Voltage Gain: 136dB; Unity Gain Bandwidth Product: 2MHz; Min Supply Voltage: 4V; Max Dual Supply Voltage: 18V; Output Current: 18mA; Nominal Supply Current: 475uA; Common Mode Rejection Ratio: 120dB; Number of Channels: 4; Slew Rate: 0.8V/µs; Input Bias Current: 160pA; Input Offset Voltage (Vos): 6uV; Operating Supply Current: 415uA; MPN: OPA4188AIDR; Footprint: NB SOIC 14; value: OPA4188AIDR; ComponentLink1Description: loja; ComponentLink1URL: https://www.digikey.com/product-detail/en/texas-instruments/OPA4188AIDR/296-30574-1-ND/3478034; ComponentLink2Description: datasheet; ComponentLink2URL: http://www.ti.com/lit/ds/symlink/opa4188.pdf; Supplier 1: Digi-Key; Supplier Part Number 1: 296-30574-1-ND; Manufacturer Part Number: OPA4188AIDR; Stock 1: 1371; Pricing 1: 1=4,90000, 10=4,39800, 25=4,15800, 100=3,41880, 250=3,06768, 500=2,95680, 1000=2,45784 (USD); RoHS: Yes; Case/Package: D; Number of Pins: 14; Contact Plating: Gold; Min Operating Temperature: -40°C; Max Operating Temperature: 125°C; Packaging: Tape and Reel; Package Quantity: 2500; Nominal Gain Bandwidth Product: 2MHz; Number of Circuits: 4; Gain Bandwidth Product: 2MHz; Output Current per Channel: 18mA; Number of Elements: 4; Operating Supply Voltage: 18V; Radiation Hardening: No; Lead Free: Lead Free; ComponentLink3URL: https://datasheet.ciiva.com/6628/opa4188-6628391.pdf?src-supplier=Digi-Key; ComponentLink3Description: https://datasheet.ciiva.com/6628/opa4188-6628391.pdf?src-supplier=Digi-Key; ComponentLink4URL: https://datasheet.ciiva.com/6628/opa4188-6628392.pdf?src-supplier=Digi-Key; ComponentLink4Description: https://datasheet.ciiva.com/6628/opa4188-6628392.pdf?src-supplier=Digi-Key; ComponentLink5URL: https://datasheet.ciiva.com/6628/opa4188-6628393.pdf?src-supplier=Digi-Key; ComponentLink5Description: https://datasheet.ciiva.com/6628/opa4188-6628393.pdf?src-supplier=Digi-Key; ComponentLink6URL: https://datasheet.ciiva.com/13043/opa4188-13043855.pdf?src-supplier=Mouser; ComponentLink6Description: https://datasheet.ciiva.com/13043/opa4188-13043855.pdf?src-supplier=Mouser
footprint NB SOIC-14 (SOIC, 14-Leads, Body 8.65x3.90mm, Pitch 1.27mm, IPC Medium Density)
part A pins: 1 1OUT (out), 2 1IN- (in), 3 1IN+ (in), 4 VDD (power), 11 VSS (power)
part B pins: 4 VDD (power), 5 2IN+ (in), 6 2IN- (in), 7 2OUT (out), 11 VSS (power)
part C pins: 4 VDD (power), 8 3OUT (out), 9 3IN- (in), 10 3IN+ (in), 11 VSS (power)
part D pins: 4 VDD (power), 11 VSS (power), 12 4IN+ (in), 13 4IN- (in), 14 4OUT (out)
part A text: A
part B text: B
part C text: C

## PCF8574DW
designator IC?
Remote 8-Bit I/O Expander for I2C-Bus; FABRICANTE: Texas Instruments; Number of I/Os: 8; Frequency: 100kHz; Min Supply Voltage: 2.5V; Max Supply Voltage: 6V; Datasheet_URL: http://www.ti.com/lit/gpn/PCF8574; MPN: PCF8574DW; VALOR: PCF8574DW; Supplier 1: Digi-Key; Supplier Part Number 1: 296-26294-5-ND; Manufacturer: Texas Instruments; Manufacturer Part Number: PCF8574DW; Stock 1: 1048; Pricing 1: 1=1,74000, 10=1,56600, 25=1,47760, 100=1,18200, 250=1,03424, 500=1,00470, 1000=0,79785, 2500=0,78603 (USD); RoHS: Yes; Case/Package: SOIC; Number of Pins: 16; Weight: 0.014829oz; Min Operating Temperature: -40°C; Max Operating Temperature: 85°C; Package Quantity: 40; Packaging: Rail/Tube; Max Frequency: 100kHz; Number of Outputs: 8; Length: 10.28mm; Height: 2.35mm; Width: 7.52mm; Radiation Hardening: No; Lead Free: Lead Free; REACH SVHC: No SVHC; ComponentLink1URL: https://datasheet.ciiva.com/15134/getdatasheetpartid-256461-15134595.pdf?src-supplier=Verical; ComponentLink1Description: https://datasheet.ciiva.com/15134/getdatasheetpartid-256461-15134595.pdf?src-supplier=Verical; ComponentLink2URL: https://datasheet.ciiva.com/26838/pcf8574dw-26838389.pdf?src-supplier=IIIC; ComponentLink2Description: https://datasheet.ciiva.com/26838/pcf8574dw-26838389.pdf?src-supplier=IIIC; ComponentLink3URL: https://datasheet.ciiva.com/1780/pcf8574-1780977.pdf?src-supplier=Digi-Key; ComponentLink3Description: https://datasheet.ciiva.com/1780/pcf8574-1780977.pdf?src-supplier=Digi-Key; ComponentLink4URL: https://datasheet.ciiva.com/22652/1882376-22652092.pdf?src-supplier=Element14; ComponentLink4Description: https://datasheet.ciiva.com/22652/1882376-22652092.pdf?src-supplier=Element14; ComponentLink5URL: https://datasheet.ciiva.com/41460/001187871-da-01-en-ic-i-o-expander-i2-pcf8574dw-soic-16-tid-41460613.pdf?src-supplier=Conrad; ComponentLink5Description: https://datasheet.ciiva.com/41460/001187871-da-01-en-ic-i-o-expander-i2-pcf8574dw-soic-16-tid-41460613.pdf?src-supplier=Conrad
footprint DW16-M
pins: 1 A0 (in), 2 A1 (in), 3 A2 (in), 4 P0 (io), 5 P1 (io), 6 P2 (io), 7 P3 (io), 8 GND (power), 9 P4 (io), 10 P5 (io), 11 P6 (io), 12 P7 (io), 13 *INT (out), 14 SCL, 15 SDA, 16 VCC (power)